# EAGLE library part TPS54531DDAR_TPS54531DDAR (library Filter Board)
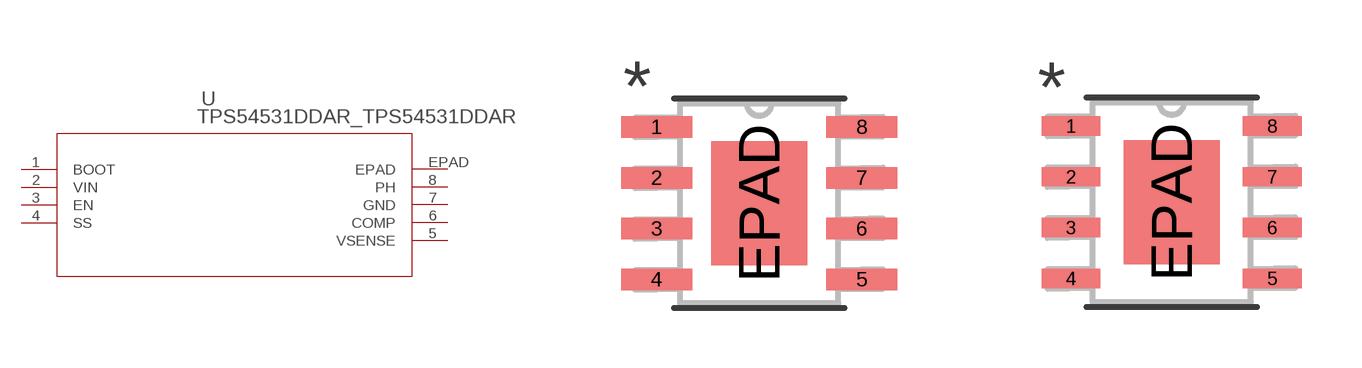
[diagram p1: symbol with the pads of TPS54531DDAR_DDA8_3P1X2P4; footprints TPS54531DDAR_DDA8_3P1X2P4, TPS54531DDAR_DDA8_3P1X2P4-L]

Designator prefix U

## TPS54531DDAR_TPS54531DDAR (MANUFACTURER_PART_NUMBER: TPS54531DDAR; VENDOR: Texas Instruments)  [TPS54531DDAR_DDA8_3P1X2P4]
1  BOOT  out
2  VIN  in
3  EN  in
4  SS  in
5  VSENSE  in
6  COMP  out
7  GND  pwr
8  PH  out
EPAD  EPAD  pas

## TPS54531DDAR_TPS54531DDARDDA8_3P1X2P4-L (MANUFACTURER_PART_NUMBER: TPS54531DDAR; VENDOR: Texas Instruments)  [TPS54531DDAR_DDA8_3P1X2P4-L]
Pads as for TPS54531DDAR_DDA8_3P1X2P4

## TPS54531DDAR_TPS54531DDARDDA8_3P1X2P4-M (MANUFACTURER_PART_NUMBER: TPS54531DDAR; VENDOR: Texas Instruments)  [TPS54531DDAR_DDA8_3P1X2P4-M]
Pads as for TPS54531DDAR_DDA8_3P1X2P4

## Footprint TPS54531DDAR_DDA8_3P1X2P4 (pad centres in mm)
smd 1.778 x 0.533: 1 -2.565,1.905; 2 -2.565,0.635; 3 -2.565,-0.635; 4 -2.565,-1.905; 5 2.565,-1.905; 6 2.565,-0.635; 7 2.565,0.635; 8 2.565,1.905
smd 2.4 x 3.1: EPAD 0,0

## Footprint TPS54531DDAR_DDA8_3P1X2P4-L (pad centres in mm)
smd 1.473 x 0.483: 1 -2.515,1.905; 2 -2.515,0.635; 3 -2.515,-0.635; 4 -2.515,-1.905; 5 2.515,-1.905; 6 2.515,-0.635; 7 2.515,0.635; 8 2.515,1.905
smd 2.4 x 3.1: EPAD 0,0

## Footprint TPS54531DDAR_DDA8_3P1X2P4-M (pad centres in mm)
smd 2.083 x 0.584: 1 -2.616,1.905; 2 -2.616,0.635; 3 -2.616,-0.635; 4 -2.616,-1.905; 5 2.616,-1.905; 6 2.616,-0.635; 7 2.616,0.635; 8 2.616,1.905
smd 2.4 x 3.1: EPAD 0,0